# Altium schematic symbol library TL081HIDR.SchLib: 1 symbol
Pins are listed as number, name and electrical type; pins without a type are passive.

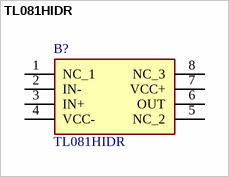
[diagram p0: symbol TL081HIDR]

## TL081HIDR
designator B?
Operational Amplifiers - Op Amps Single-channel high-speed standard op amp; Manufacturer_Name: Texas Instruments; Geometry.Height: 1.75mm; Mouser Part Number: 595-TL081HIDR; Mouser Price/Stock: https://www.mouser.co.uk/ProductDetail/Texas-Instruments/TL081HIDR?qs=pBJMDPsKWf2IEA%252Bv86wIaw%3D%3D; Manufacturer_Part_Number: TL081HIDR; Datasheet Link: https://www.ti.com/lit/ds/symlink/tl081h.pdf?ts=1631512685982&ref_url=https%253A%252F%252Fcomponentsearchengine.com%252F
footprint SOIC127P600X175-8N
pins: 1 NC_1, 2 IN-, 3 IN+, 4 VCC-, 5 NC_2, 6 OUT, 7 VCC+, 8 NC_3